# Altium schematic symbol library Diode_Nexperia_BAT54C,215_eec.SchLib: 1 symbol
Pins are listed as number, name and electrical type; pins without a type are passive.

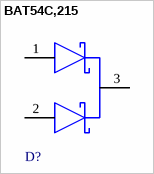
[diagram p0: symbol BAT54C,215]

## BAT54C,215
designator D?  (value not drawn)
pins: 1 1 ANODE, 2 2 ANODE, 3 COMMON CATHODE